# EAGLE library part HEADER-2X(1X03) (library magzor)
for -DUAL-SERVO, be sure to set >A and >B attributes
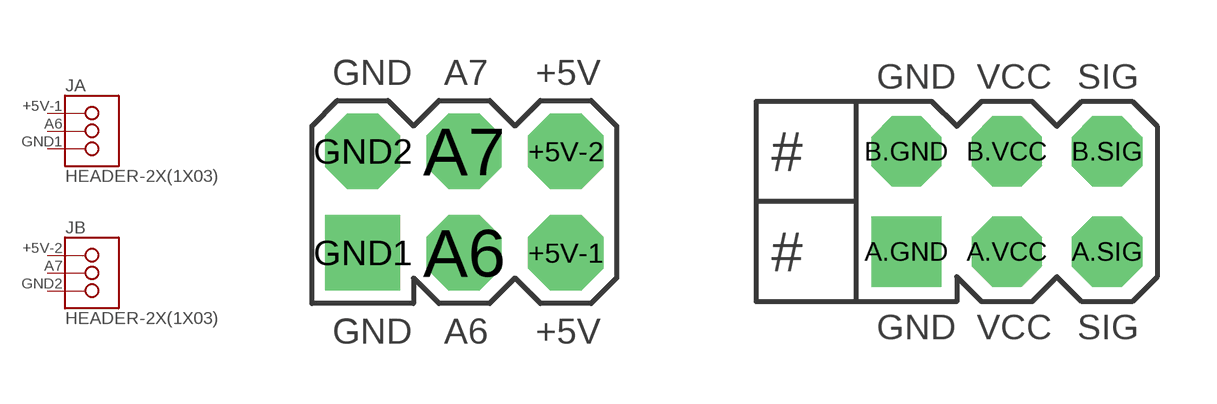
[diagram p16: symbol with the pads of HEADER-2X03-SPARE-ANALOG; footprints HEADER-2X03-SPARE-ANALOG, HEADER-2X03-DUAL-SERVO]

Designator prefix J; gates A=HEADER-1X03 B=HEADER-1X03

## HEADER-2X(1X03)-A6-A7  [HEADER-2X03-SPARE-ANALOG]
+5V-1  A:1
+5V-2  B:1
A6  A:2
A7  B:2
GND1  A:3
GND2  B:3

## HEADER-2X(1X03)-DUAL-SERVO  [HEADER-2X03-DUAL-SERVO]
A.GND  A:3
A.SIG  A:2
A.VCC  A:1
B.GND  B:3
B.SIG  B:2
B.VCC  B:1

## Footprint HEADER-2X03-SPARE-ANALOG (pad centres in mm)
drill 1.016 pad 1.88 octagon: +5V-1 2.54,-1.27; +5V-2 2.54,1.27; A6 0,-1.27; A7 0,1.27; GND2 -2.54,1.27
drill 1.016 pad 1.88 square: GND1 -2.54,-1.27

## Footprint HEADER-2X03-DUAL-SERVO (pad centres in mm)
drill 0.965 pad 1.778 square: A.GND -2.54,-1.27
drill 0.965 pad 1.778 octagon: A.SIG 2.54,-1.27; A.VCC 0,-1.27; B.GND -2.54,1.27; B.SIG 2.54,1.27; B.VCC 0,1.27